# EAGLE library part ATMEGA8 (library Atmel_Prototype_Header)
IC AVR MCU 8K LV 8MHZ IND 32TQFP , Atmel Part number ATMEGA8L-8AI
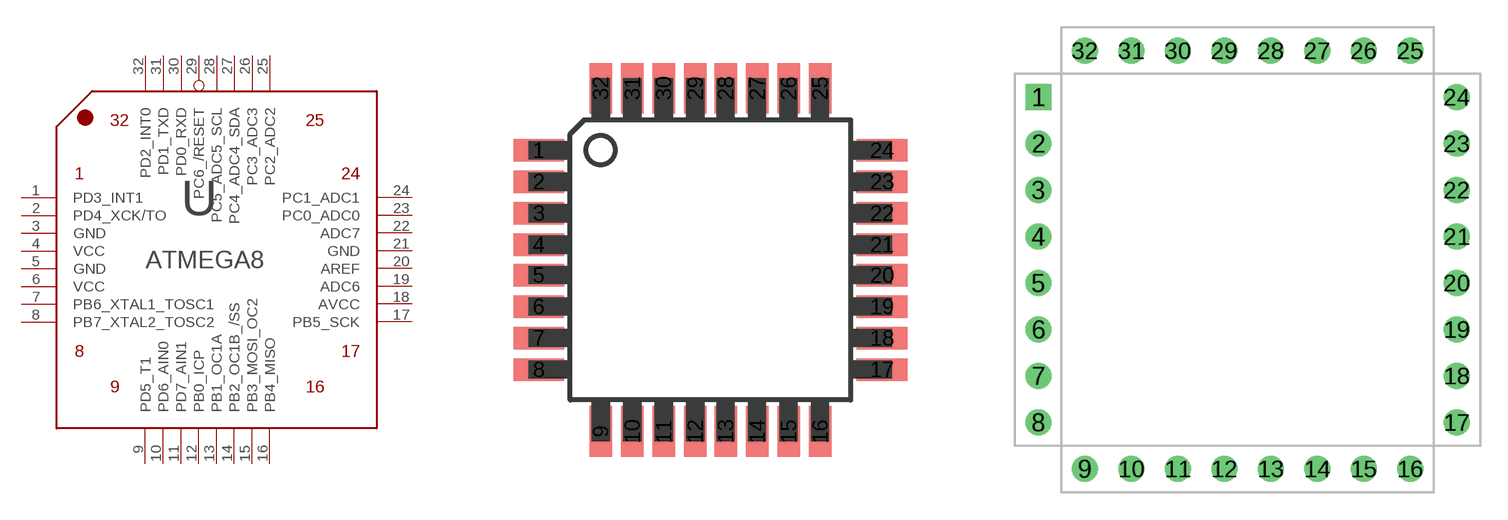
[diagram p2: symbol with the pads of TQFP-32; footprints TQFP-32, HEADER_SQR32_35]

Designator prefix U

## ATMEGA8_TQFP  [TQFP-32]
1  PD3_INT1
2  PD4_XCK/TO
3  GND  pwr
4  VCC  pwr
5  GND  pwr
6  VCC  pwr
7  PB6_XTAL1_TOSC1
8  PB7_XTAL2_TOSC2
9  PD5_T1
10  PD6_AIN0
11  PD7_AIN1
12  PB0_ICP
13  PB1_OC1A
14  PB2_OC1B_/SS
15  PB3_MOSI_OC2
16  PB4_MISO
17  PB5_SCK
18  AVCC  pwr
19  ADC6  pwr
20  AREF  pwr
21  GND  pwr
22  ADC7
23  PC0_ADC0
24  PC1_ADC1
25  PC2_ADC2
26  PC3_ADC3
27  PC4_ADC4_SDA
28  PC5_ADC5_SCL
29  PC6_/RESET
30  PD0_RXD
31  PD1_TXD
32  PD2_INT0

## ATMEGA8_SINGLE_35  [HEADER_SQR32_35]
Pads as for TQFP-32

## ATMEGA8_SINGLE_43  [HEADER_SQR32_43]
Pads as for TQFP-32

## ATMEGA8_DIL_32  [DIL32]
Pads as for TQFP-32

## Footprint TQFP-32 (pad centres in mm)
smd 1.27 x 0.559: 1 -4.293,2.743; 2 -4.293,1.956; 3 -4.293,1.168; 4 -4.293,0.381; 5 -4.293,-0.381; 6 -4.293,-1.168; 7 -4.293,-1.956; 8 -4.293,-2.743; 17 4.293,-2.743; 18 4.293,-1.956; 19 4.293,-1.168; 20 4.293,-0.381; 21 4.293,0.381; 22 4.293,1.168; 23 4.293,1.956; 24 4.293,2.743
smd 0.559 x 1.27: 9 -2.743,-4.293; 10 -1.956,-4.293; 11 -1.168,-4.293; 12 -0.381,-4.293; 13 0.381,-4.293; 14 1.168,-4.293; 15 1.956,-4.293; 16 2.743,-4.293; 25 2.743,4.293; 26 1.956,4.293; 27 1.168,4.293; 28 0.381,4.293; 29 -0.381,4.293; 30 -1.168,4.293; 31 -1.956,4.293; 32 -2.743,4.293

## Footprint HEADER_SQR32_35 (pad centres in mm)
drill 0.9 square: 1 -11.43,8.89
drill 0.9 round: 2 -11.43,6.35; 3 -11.43,3.81; 4 -11.43,1.27; 5 -11.43,-1.27; 6 -11.43,-3.81; 7 -11.43,-6.35; 8 -11.43,-8.89; 9 -8.89,-11.43; 10 -6.35,-11.43; 11 -3.81,-11.43; 12 -1.27,-11.43; 13 1.27,-11.43; 14 3.81,-11.43; 15 6.35,-11.43; 16 8.89,-11.43; 17 11.43,-8.89; 18 11.43,-6.35; 19 11.43,-3.81; 20 11.43,-1.27; 21 11.43,1.27; 22 11.43,3.81; 23 11.43,6.35; 24 11.43,8.89; 25 8.89,11.43; 26 6.35,11.43; 27 3.81,11.43; 28 1.27,11.43; 29 -1.27,11.43; 30 -3.81,11.43; 31 -6.35,11.43; 32 -8.89,11.43

## Footprint HEADER_SQR32_43 (pad centres in mm)
drill 1.1 square: 1 -11.43,8.89
drill 1.1 round: 2 -11.43,6.35; 3 -11.43,3.81; 4 -11.43,1.27; 5 -11.43,-1.27; 6 -11.43,-3.81; 7 -11.43,-6.35; 8 -11.43,-8.89; 9 -8.89,-11.43; 10 -6.35,-11.43; 11 -3.81,-11.43; 12 -1.27,-11.43; 13 1.27,-11.43; 14 3.81,-11.43; 15 6.35,-11.43; 16 8.89,-11.43; 17 11.43,-8.89; 18 11.43,-6.35; 19 11.43,-3.81; 20 11.43,-1.27; 21 11.43,1.27; 22 11.43,3.81; 23 11.43,6.35; 24 11.43,8.89; 25 8.89,11.43; 26 6.35,11.43; 27 3.81,11.43; 28 1.27,11.43; 29 -1.27,11.43; 30 -3.81,11.43; 31 -6.35,11.43; 32 -8.89,11.43

## Footprint DIL32 (pad centres in mm)
Dual In Line
drill 0.813 long: 1 -19.05,-7.62; 2 -16.51,-7.62; 3 -13.97,-7.62; 4 -11.43,-7.62; 5 -8.89,-7.62; 6 -6.35,-7.62; 7 -3.81,-7.62; 8 -1.27,-7.62; 9 1.27,-7.62; 10 3.81,-7.62; 11 6.35,-7.62; 12 8.89,-7.62; 13 11.43,-7.62; 14 13.97,-7.62; 15 16.51,-7.62; 16 19.05,-7.62; 17 19.05,7.62; 18 16.51,7.62; 19 13.97,7.62; 20 11.43,7.62; 21 8.89,7.62; 22 6.35,7.62; 23 3.81,7.62; 24 1.27,7.62; 25 -1.27,7.62; 26 -3.81,7.62; 27 -6.35,7.62; 28 -8.89,7.62; 29 -11.43,7.62; 30 -13.97,7.62; 31 -16.51,7.62; 32 -19.05,7.62